# EAGLE library part LED-7SEG-4DIGIT-COMA (library mylib)
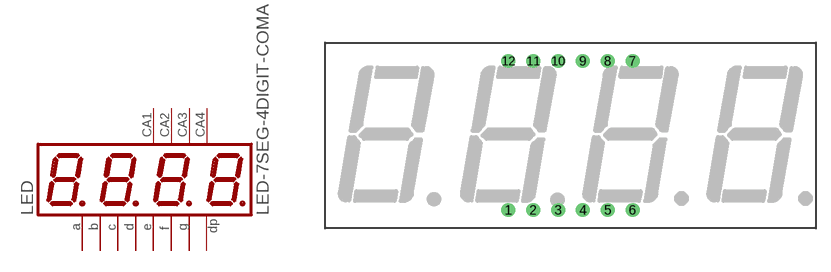
[diagram p82: symbol with the pads of LED-7SEG-4DIGIT; footprint LED-7SEG-4DIGIT]

Designator prefix LED

## LED-7SEG-4DIGIT-COMA  [LED-7SEG-4DIGIT]
1  E  pas
2  D  pas
3  DP  pas
4  C  pas
5  G  pas
6  CA4  pas
7  B  pas
8  CA  pas
9  CA  pas
10  F  pas
11  A  pas
12  CA  pas

## Footprint LED-7SEG-4DIGIT (pad centres in mm)
14.22mm (0.56INCH) THREE DIGIT NUMERIC DISPLAY Source: http://www.kingbright.com .. BA56-11EWA(Ver1189474895.pdf
drill 0.8 pad 1.422: 1 -6.35,-7.62; 2 -3.81,-7.62; 3 -1.27,-7.62; 4 1.27,-7.62; 5 3.81,-7.62; 6 6.35,-7.62; 7 6.35,7.62; 8 3.81,7.62; 9 1.27,7.62; 10 -1.27,7.62; 11 -3.81,7.62; 12 -6.35,7.62